# Altium footprint library PEI_PCB_1.1.PcbLib: 310 footprints (part 19 of 20)
Each footprint in its own frame and in the unit in brackets; x right, y up, seen from the top. Pads: shape width x height; smd on the part's side, far side on the other; paste and mask are expansions set on the pad; w line width, h text height; cw(c..) or ccw(c..) is an arc to the next point about the centre after c.
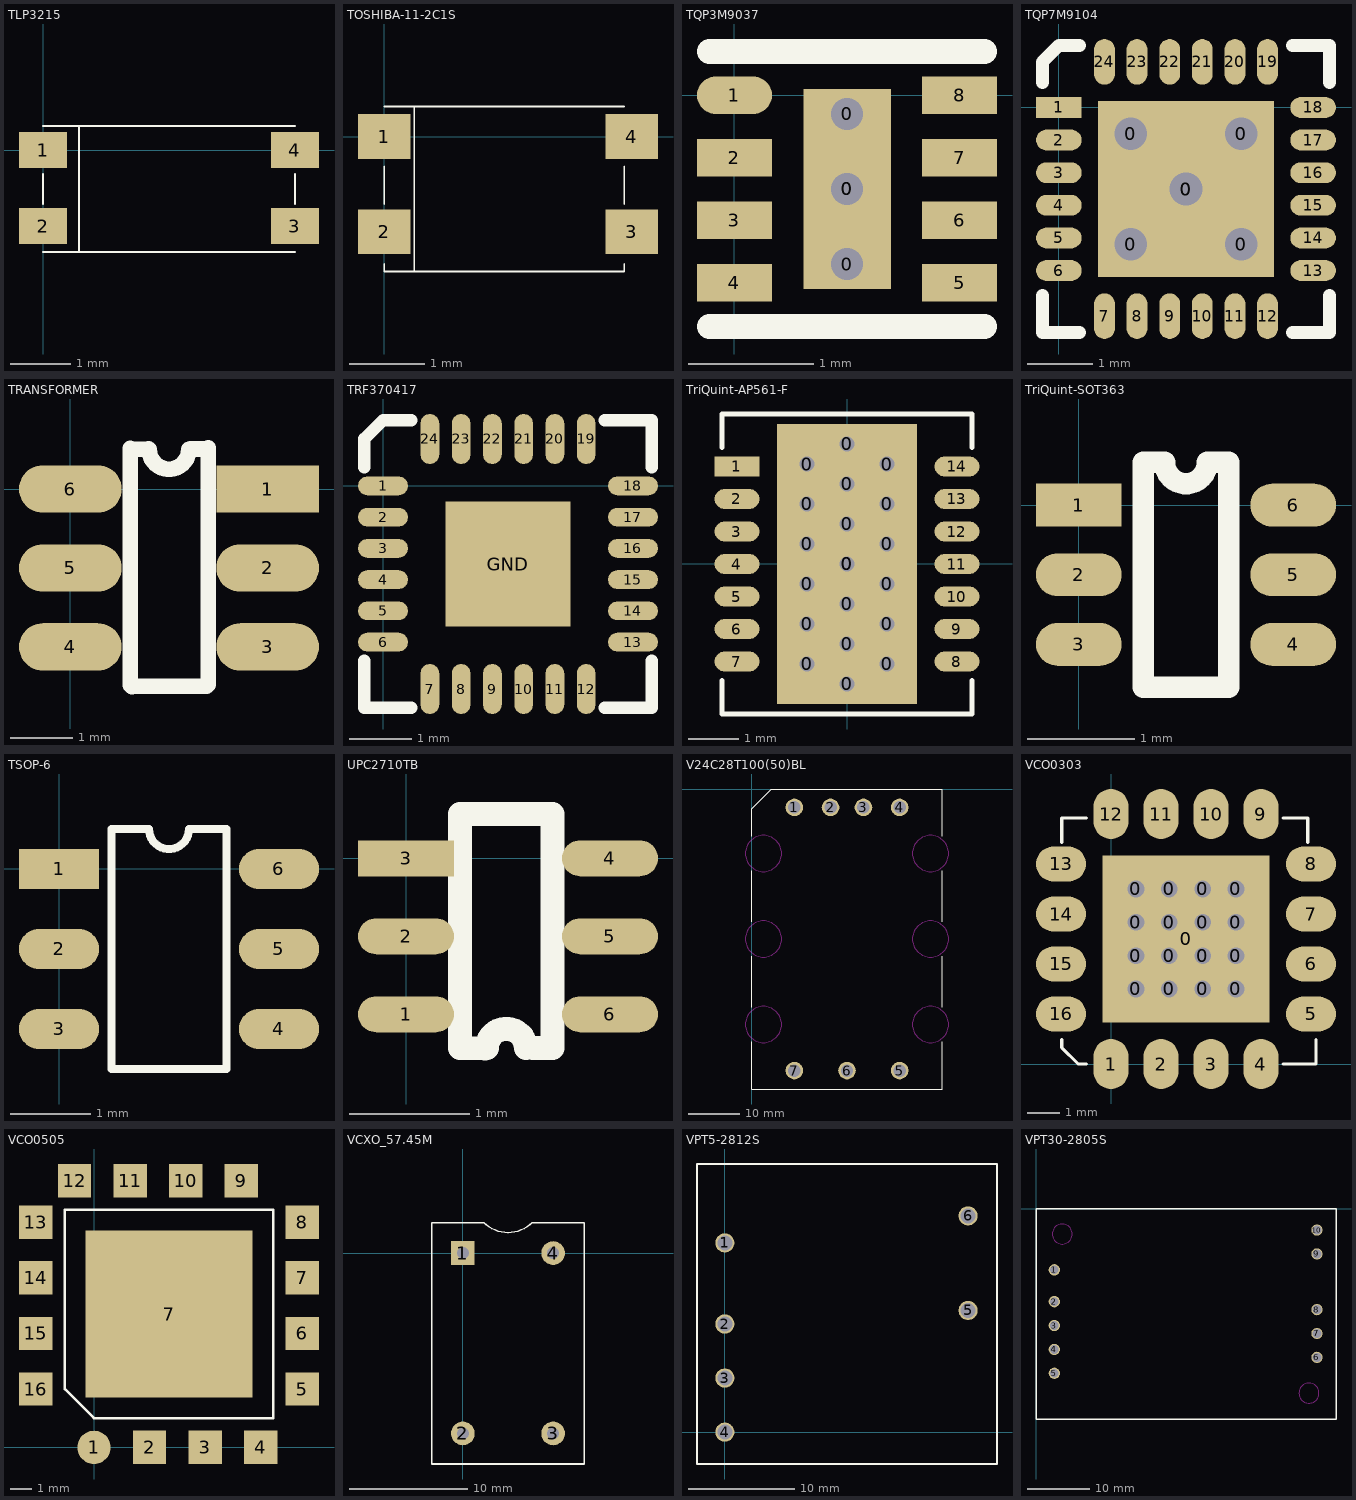
[diagram p18: the footprints below, top view; thin cyan lines are the x and y axes]

## TLP3215 [mm]
pads (4):
  rect 0.8x0.6 smd: 1(0,0) 2(0,-1.27) 3(4.2,-1.27) 4(4.2,0)
TopOverlay:
  lines w0.025: 0,-1.7 4.2,-1.7 ; 0,-0.9 0,-0.4 ; 0,0.4 4.2,0.4 ; 0.6,-1.7 0.6,0.4 ; 4.2,-0.9 4.2,-0.4

## TOSHIBA-11-2C1S [mm]
pads (4):
  rect 0.7x0.6 smd: 1(0,0) 2(0,-1.27) 3(3.3,-1.27) 4(3.3,0)
TopOverlay:
  lines w0.025: 0,-1.7 0,-1.8 3.2,-1.8 3.2,-1.7 ; 0,-0.9 0,-0.4 ; 0,0.4 3.2,0.4 ; 0.4,-1.8 0.4,0.4 ; 3.2,-0.9 3.2,-0.4

## TQP3M9037 [mm]
pads (12):
  round 0.381 hole 0.254: 0(0.9,-1.35) 0(0.9,-0.75) 0(0.9,-0.15)
  rect 0.7x1.6 smd: 0(0.9,-0.75)
  oval 0.6x0.3 smd: 1(0,0)
  rect 0.6x0.3 smd: 2(0,-0.5) 3(0,-1) 4(0,-1.5) 5(1.8,-1.5) 6(1.8,-1) 7(1.8,-0.5) 8(1.8,0)
TopOverlay:
  lines w0.2: -0.2,-1.85 2,-1.85 ; -0.2,0.35 2,0.35

## TQP7M9104 [mm]
pads (30):
  round 0.8 hole 0.5: 0(1.1,-2.1) 0(1.1,-0.4) 0(1.95,-1.25) 0(2.8,-2.1) 0(2.8,-0.4)
  rect 2.7x2.7 smd: 0(1.95,-1.25)
  rect 0.7x0.32 smd: 1(0,0)
  oval 0.7x0.32 smd: 2(0,-0.5) 3(0,-1) 4(0,-1.5) 5(0,-2) 6(0,-2.5) 13(3.9,-2.5) 14(3.9,-2) 15(3.9,-1.5) 16(3.9,-1) 17(3.9,-0.5) 18(3.9,0)
  oval 0.32x0.7 smd: 7(0.7,-3.2) 8(1.2,-3.2) 9(1.7,-3.2) 10(2.2,-3.2) 11(2.7,-3.2) 12(3.2,-3.2) 19(3.2,0.7) 20(2.7,0.7) 21(2.2,0.7) 22(1.7,0.7) 23(1.2,0.7) 24(0.7,0.7)
TopOverlay:
  lines w0.2: -0.25,-2.88 -0.25,-3.45 0.32,-3.45 ; -0.25,0.38 -0.25,0.7 0,0.95 0.32,0.95 ; 3.58,-3.45 4.15,-3.45 4.15,-2.88 ; 3.58,0.95 4.15,0.95 4.15,0.38

## TRANSFORMER [mil]
pads (6):
  rect 65x30 smd: 1(125,0)
  oval 65x30 smd: 2(125,-50) 3(125,-100) 4(0,-100) 5(0,-50) 6(0,0)
TopOverlay:
  lines w10: 37.9,-124.3 37.9,25.7 ; 38,25 49.6,25.4 ; 39,-125.1 86.2,-124.8 ; 50,25 ccw(c62.5,25) 75,25 ; 75.9,25.4 86.8,25.4 ; 87.3,-124 87.3,26

## TRF370417 [mm]
pads (25):
  oval 0.8x0.3 smd: 1(0,0) 2(0,-0.5) 3(0,-1) 4(0,-1.5) 5(0,-2) 6(0,-2.5) 13(4,-2.5) 14(4,-2) 15(4,-1.5) 16(4,-1) 17(4,-0.5) 18(4,0)
  oval 0.3x0.8 smd: 7(0.75,-3.25) 8(1.25,-3.25) 9(1.75,-3.25) 10(2.25,-3.25) 11(2.75,-3.25) 12(3.25,-3.25) 19(3.25,0.75) 20(2.75,0.75) 21(2.25,0.75) 22(1.75,0.75) 23(1.25,0.75) 24(0.75,0.75)
  rect 2x2 smd: GND(2,-1.25)
TopOverlay:
  lines w0.2: -0.3,-2.8 -0.3,-3.55 0.45,-3.55 ; -0.3,0.3 -0.3,0.75 0,1.05 0.45,1.05 ; 3.55,-3.55 4.3,-3.55 4.3,-2.8 ; 3.55,1.05 4.3,1.05 4.3,0.3

## TriQuint-AP561-F [mm]
pads (34):
  round 0.5 hole 0.3: 0(-0.8,-2) 0(-0.8,-1.2) 0(-0.8,-0.4) 0(-0.8,0.4) 0(-0.8,1.2) 0(-0.8,2) 0(0,-2.4) 0(0,-1.6) 0(0,-0.8) 0(0,0) 0(0,0.8) 0(0,1.6) 0(0,2.4) 0(0.8,-2) 0(0.8,-1.2) 0(0.8,-0.4) 0(0.8,0.4) 0(0.8,1.2) 0(0.8,2)
  rect 2.8x5.6 smd: 0(0,0)
  rect 0.9x0.4 smd: 1(-2.2,1.95)
  oval 0.9x0.4 smd: 2(-2.2,1.3) 3(-2.2,0.65) 4(-2.2,0) 5(-2.2,-0.65) 6(-2.2,-1.3) 7(-2.2,-1.95) 8(2.2,-1.95) 9(2.2,-1.3) 10(2.2,-0.65) 11(2.2,0) 12(2.2,0.65) 13(2.2,1.3) 14(2.2,1.95)
TopOverlay:
  lines w0.1: -2.5,-2.325 -2.5,-3 2.5,-3 2.5,-2.325 ; -2.5,2.325 -2.5,3 ; 2.5,2.325 2.5,3 -2.5,3 ; -2.5,3 -2.5,3

## TriQuint-SOT363 [mm]
pads (6):
  rect 0.8x0.4 smd: 1(0,0)
  oval 0.8x0.4 smd: 2(0,-0.65) 3(0,-1.3) 4(2,-1.3) 5(2,-0.65) 6(2,0)
TopOverlay:
  lines w0.2: 0.6,-1.7 1.4,-1.7 1.4,0.4 1.2,0.4 cw(c1,0.4) 0.8,0.4 0.6,0.4 0.6,-1.7

## TSOP-6 [mm]
pads (6):
  rect 1x0.5 smd: 1(0,0)
  oval 1x0.5 smd: 2(0,-1) 3(0,-2) 4(2.75,-2) 5(2.75,-1) 6(2.75,0)
TopOverlay:
  lines w0.1: 0.654,-2.5 2.096,-2.5 2.096,0.5 1.625,0.5 cw(c1.375,0.5) 1.125,0.5 0.654,0.5 0.654,-2.5

## UPC2710TB [mm]
pads (6):
  oval 0.8x0.3 smd: 1(0,-1.3) 2(0,-0.65) 4(1.7,0) 5(1.7,-0.65) 6(1.7,-1.3)
  rect 0.8x0.3 smd: 3(0,0)
TopOverlay:
  lines w0.2: 0.658,-1.585 0.452,-1.582 0.452,0.368 1.222,0.368 1.222,-1.582 1.057,-1.582 ; 0.674,-1.582 cw(c0.837,-1.582) 0.999,-1.582

## V24C28T100(50)BL [mm]
pads (7):
  round 3.4 hole 2.4: 1(8.255,-3.556) 2(15.24,-3.556) 3(21.59,-3.556) 4(28.575,-3.556) 5(28.575,-54.356) 6(18.415,-54.356) 7(8.255,-54.356)
TopOverlay:
  lines w0.1: 0,-48.768 0,-57.912 36.83,-57.912 36.83,-48.768 ; 0,-42.164 0,-32.258 ; 0,-25.654 0,-15.748 ; 0,-9.144 0,-3.81 3.81,0 36.83,0 36.83,-9.144 ; 36.83,-42.164 36.83,-32.258 ; 36.83,-25.654 36.83,-15.748
KeepOutLayer:
  circle w0.1: c2.286,-12.446 r3.5
  circle w0.1: c2.286,-28.956 r3.5
  circle w0.1: c2.286,-45.466 r3.5
  circle w0.1: c34.544,-45.466 r3.5
  circle w0.1: c34.544,-28.956 r3.5
  circle w0.1: c34.544,-12.446 r3.5

## VCO0303 [mil]
pads (33):
  round 30 hole 20: 0(30,90) 0(30,130) 0(30,170) 0(30,210) 0(70,90) 0(70,130) 0(70,170) 0(70,210) 0(110,90) 0(110,130) 0(110,170) 0(110,210) 0(150,90) 0(150,130) 0(150,170) 0(150,210)
  rect 200x200 smd: 0(90,150)
  oval 42x60 smd: 1(0,0) 2(60,0) 3(120,0) 4(180,0) 9(180,300) 10(120,300) 11(60,300) 12(0,300)
  oval 60x42 smd: 5(240,60) 6(240,120) 7(240,180) 8(240,240) 13(-60,240) 14(-60,180) 15(-60,120) 16(-60,60)
TopOverlay:
  lines w3.94: -59.06,29.53 -59.06,19.68 -39.37,0 -29.53,0 ; -59.06,265.75 -59.06,295.28 -29.53,295.28 ; 206.69,0 246.06,0 246.06,29.53 ; 206.69,295.28 236.22,295.28 236.22,265.75

## VCO0505 [mil]
pads (17):
  round 60 smd: 1(0,0)
  rect 60x60 smd: 2(100,0) 3(200,0) 4(300,0) 5(375,105) 6(375,205) 7(375,305) 8(375,405) 9(265,480) 10(165,480) 11(65,480) 12(-35,480) 13(-105,405) 14(-105,305) 15(-105,205) 16(-105,105)
  rect 300x300 smd: 7(135,240)
TopOverlay:
  lines w5: -52.5,105 -52.5,427.5 322.5,427.5 322.5,52.5 0,52.5 -52.5,105

## VCXO_57.45M [mm]
pads (4):
  rect 2x2 hole 1: 1(0,0)
  round 2 hole 1: 2(0,-15.24) 3(7.62,-15.24) 4(7.62,0)
TopOverlay:
  lines w0.127: -2.64,-17.82 -2.64,2.58 1.762,2.58 ccw(c3.81,4.628) 5.858,2.58 10.26,2.58 10.26,-17.82 -2.64,-17.82

## VPT5-2812S [mm]
pads (6):
  round 1.8 hole 1.4: 1(0,17.78) 2(0,10.16) 3(0,5.08) 4(0,0) 5(22.86,11.43) 6(22.86,20.32)
TopOverlay:
  lines w0.2: -2.616,-2.997 25.578,-2.997 25.578,25.197 -2.616,25.197 -2.616,-2.997

## VPT30-2805S [mm]
pads (10):
  round 1.8 hole 1.4: 1(2.921,-9.779) 2(2.921,-14.859) 3(2.921,-18.669) 4(2.921,-22.479) 5(2.921,-26.289) 6(44.831,-23.749) 7(44.831,-19.939) 8(44.831,-16.129) 9(44.831,-7.239) 10(44.831,-3.429)
TopOverlay:
  lines w0.2: 0,-33.655 0,0 47.879,0 47.879,-33.655 0,-33.655
KeepOutLayer:
  circle w0.1: c4.191,-4.064 r1.6
  circle w0.1: c43.561,-29.464 r1.6